# Altium schematic symbol library RF.SchLib: 12 symbols
Pins are listed as number, name and electrical type; pins without a type are passive.

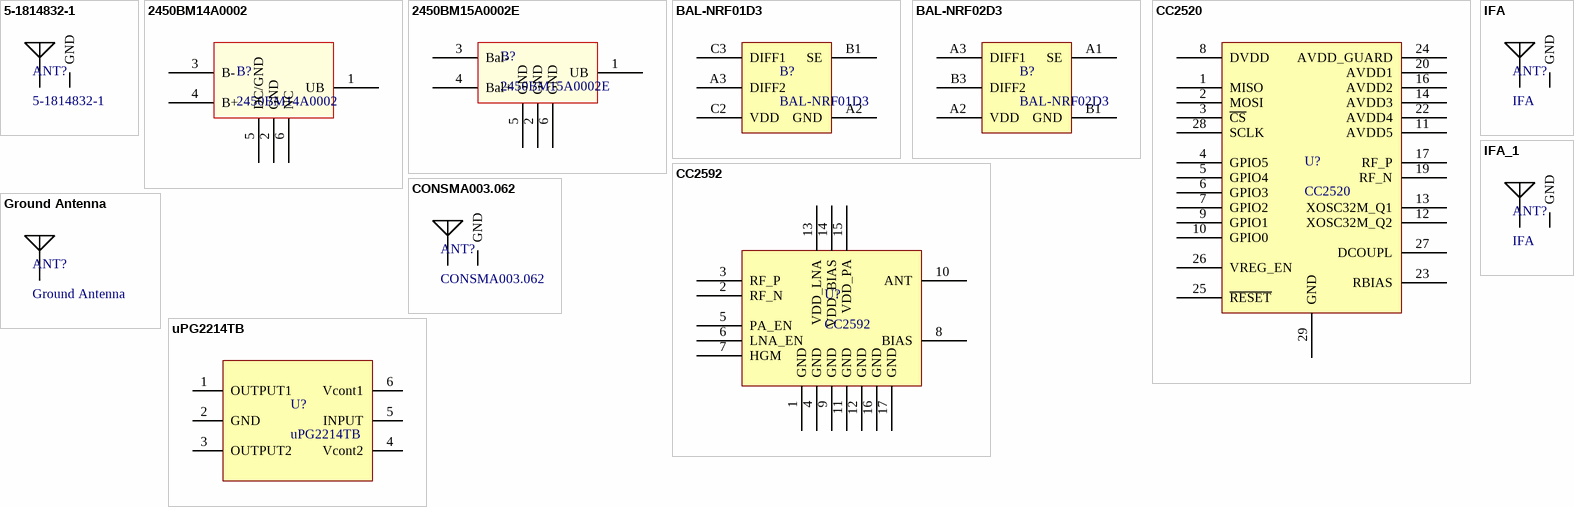
[diagram p0: symbols 5-1814832-1 to uPG2214TB]

## 5-1814832-1
designator ANT?
CONN SMA JACK STR 50 OHM PCB; Supplier 1: Digi-Key; Supplier Part Number 1: A97594-ND
footprint 5-1814832-1 (SMA connector, through hole, 50 Ohm, 3Ghz)
pins: 1 GND (power), 2

## 2450BM14A0002
designator B?
2.45 GHz Balun for nRF8001; Supplier 1: Digi-Key; Supplier Part Number 1: 712-1574-1-ND
footprint 2450BM14A0002 (Chip Array, Flat, 6-Leads, Pitch 0.50mm,  Body 1.60x0.80mm,  IPC Medium Density)
pins: 1 UB, 2 GND, 3 B-, 4 B+, 5 DC/GND, 6 NC

## 2450BM15A0002E
designator B?
2.45 GHz Balun for TI CC253X; Supplier 1: Digi-Key; Supplier Part Number 1: 712-1536-1-ND
footprint 2450BM15A0002 (Chip Array, Flat, 6-Leads, Pitch 0.65mm,  Body 2.00x1.25mm,  IPC Medium Density)
pins: 1 UB, 2 GND, 3 Bal-, 4 Bal+, 5 GND, 6 GND

## BAL-NRF01D3
designator B?
50 ohm nominal input / conjugate match balun to nRF51822-CEAA; Supplier 1: Digi-Key; Supplier Part Number 1: 497-13637-1-ND
footprint BAL-NRF01D3 (ST electronic balun)
pins: A2 GND, A3 DIFF2, B1 SE, C2 VDD, C3 DIFF1

## BAL-NRF02D3
designator B?
50 ohm nominal input / conjugate match balun to nRF51822-CEAA; Supplier 1: Digi-Key; Supplier Part Number 1: 497-14009-1-ND
footprint BAL-NRF02D3
pins: A1 SE, A2 VDD, A3 DIFF1, B1 GND, B3 DIFF2

## CC2520
designator U?
2.4 GHZ IEEE 802.15.4/ZIGBEE® RF TRANSCEIVER; Supplier 1: Digi-Key; Supplier Part Number 1: 296-22996-6-ND
footprint QFN-28 (QFN, 28-Leads, Body 5.00x5.00mm, Pitch 0.50mm, Thermal Pad 3.15x3.15mm, IPC Medium Density)
pins: 1 MISO, 2 MOSI, 3 ~{CS}, 4 GPIO5, 5 GPIO4, 6 GPIO3, 7 GPIO2, 8 DVDD, 9 GPIO1, 10 GPIO0, 11 AVDD5, 12 XOSC32M_Q2, 13 XOSC32M_Q1, 14 AVDD3, 16 AVDD2, 17 RF_P, 19 RF_N, 20 AVDD1, 22 AVDD4, 23 RBIAS, 24 AVDD_GUARD, 25 ~{RESET}, 26 VREG_EN, 27 DCOUPL, 28 SCLK, 29 GND

## CC2592
designator U?
2.4-GHz Range Extender; Supplier 1: Digi-Key; Supplier Part Number 1: 296-37475-1-ND
footprint QFN-16 (QFN, 16-Leads, Body 4.00x4.00mm, Pitch 0.65mm, Thermal Pad 2.08x2.08mm, IPC Medium Density)
pins: 1 GND, 2 RF_N, 3 RF_P, 4 GND, 5 PA_EN, 6 LNA_EN, 7 HGM, 8 BIAS, 9 GND, 10 ANT, 11 GND, 12 GND, 13 VDD_LNA, 14 VDD_BIAS, 15 VDD_PA, 16 GND, 17 GND

## CONSMA003.062
designator ANT?
CONN SMA JACK 50 OHM EDGE MNT; Supplier 1: Digi-Key; Supplier Part Number 1: CONSMA003.062-ND
footprint CONSMA003.062
pins: 1 GND (power), 2

## Ground Antenna
designator ANT?
2.4GHz Surface Mount Device (SMD) On Ground Antenna, 50 Ohms; Supplier 1: RichardsonRFPD; Supplier Part Number 1: FR05-S1-N-0102B
footprint Chip Antenna (FR05-S1-N-0-102)
pins: 1

## IFA
designator ANT?
Inverted F Antenna (IFA)
footprint Inverted F Antenna
pins: GND (power), SIG

## IFA_1
designator ANT?, comment IFA
Inverted F Antenna (IFA)
footprint Inverted F Antenna
pins: GND (power), SIG

## uPG2214TB
designator U?
GaAs Integrated Circuit for L, S-Band SPDT Switch; Supplier 1: Digi-Key; Supplier Part Number 1: UPG2214TB-E4-ACT-ND
footprint minimold-6 (SOTFL, 6-Leads, Body 2.00x2.10mm, Pitch 0.65mm, IPC Medium Density)
pins: 1 OUTPUT1 (power), 2 GND (power), 3 OUTPUT2 (power), 4 Vcont2 (power), 5 INPUT (power), 6 Vcont1 (power)